# EAGLE library part MAX4564 (library sc_usercreated)
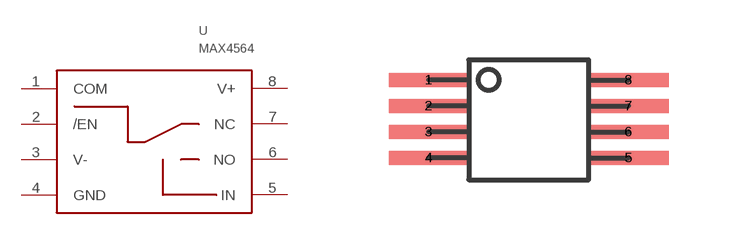
[diagram p16: symbol with the pads of 8USOP; footprint 8USOP]

Designator prefix U

## MAX4564  [8USOP]
1  COM
2  /EN
3  V-
4  GND
5  IN
6  NO
7  NC
8  V+

## Footprint 8USOP (pad centres in mm)
smd 2 x 0.35: 1 0,0; 2 0,-0.65; 3 0,-1.3; 4 0,-1.95; 5 5,-1.95; 6 5,-1.3; 7 5,-0.65; 8 5,0